# EAGLE library part ANALOG,SE2DIFF_ADC_DRIVER (library QuantumOptics)
Single ended to differential ADC driver, specifically ADA4941-1.
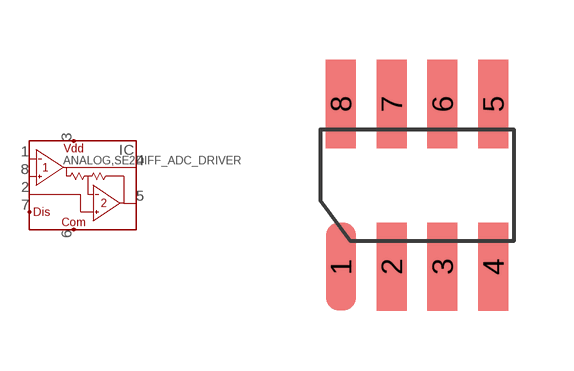
[diagram p200: symbol with the pads of SOIC-8; footprint SOIC-8]

Designator prefix IC

## ANALOG,SE2DIFF_ADC_DRIVER-SOIC8  [SOIC-8]
1  IN1-  in
2  IN2+  in
3  VDD
4  OUT1  out
5  OUT2  out
6  COM
7  DISABLE  in
8  IN1+  in

## Footprint SOIC-8 (pad centres in mm)
SOIC-8 (AKA SO-8), pads on 0.050" grid.
smd 0.75 x 2.2: 1 -1.905,-2.032; 2 -0.635,-2.032; 3 0.635,-2.032; 4 1.905,-2.032; 5 1.905,2.032; 6 0.635,2.032; 7 -0.635,2.032; 8 -1.905,2.032